# Altium schematic symbol library LED_RED_A1K2-2.SchLib: 1 symbol
Pins are listed as number, name and electrical type; pins without a type are passive.

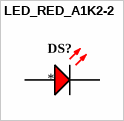
[diagram p0: symbol LED_RED_A1K2-2]

## LED_RED_A1K2-2
designator DS?
pins: 1 K, 2 A